# EAGLE library part LMV324IDR (library OPL5)
General purpose LOW Voltage, Rail-to-Rail Output Amplifiers http://www.fairchildsemi.com/ds/LM/LMV358.pdf
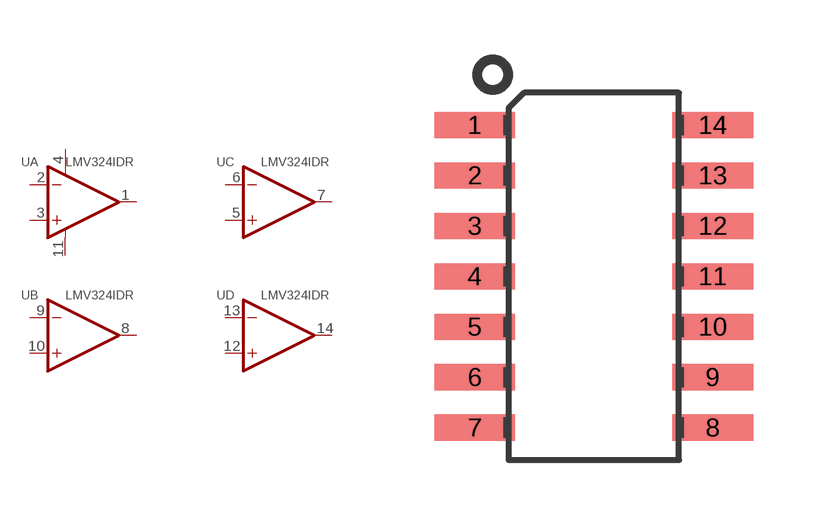
[diagram p7: symbol with the pads of SOIC14; footprint SOIC14]

Designator prefix U; gates A=OP-AMP+- B=OP-AMP C=OP-AMP D=OP-AMP

## LMV324IDR-1100030P1  [SOIC14]
1  A:OUT  out
2  A:IN-  in
3  A:IN+  in
4  A:V+  pwr
5  C:IN+  in
6  C:IN-  in
7  C:OUT  out
8  B:OUT  out
9  B:IN-  in
10  B:IN+  in
11  A:V-  pwr
12  D:IN+  in
13  D:IN-  in
14  D:OUT  out

## Footprint SOIC14 (pad centres in mm)
smd 2.032 x 0.66: 1 -2.997,3.81; 2 -2.997,2.54; 3 -2.997,1.27; 4 -2.997,0; 5 -2.997,-1.27; 6 -2.997,-2.54; 7 -2.997,-3.81; 8 2.997,-3.81; 9 2.997,-2.54; 10 2.997,-1.27; 11 2.997,0; 12 2.997,1.27; 13 2.997,2.54; 14 2.997,3.81